# Altium schematic symbol library Conn_Molex_73391-0070_eec.SchLib: 1 symbol
Pins are listed as number, name and electrical type; pins without a type are passive.

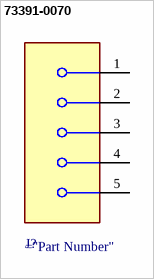
[diagram p0: symbol 73391-0070]

## 73391-0070
designator J?  (value not drawn)
footprint Molex_73391-0070_0
pins: 1, 2 MNT 1, 3 MNT 2, 4 MNT 3, 5 MNT 4